# Altium footprint library Driver.PcbLib: 24 footprints (part 1 of 2)
Each footprint in its own frame and in the unit in brackets; x right, y up, seen from the top. Pads: shape width x height; smd on the part's side, far side on the other; paste and mask are expansions set on the pad; w line width, h text height; cw(c..) or ccw(c..) is an arc to the next point about the centre after c.
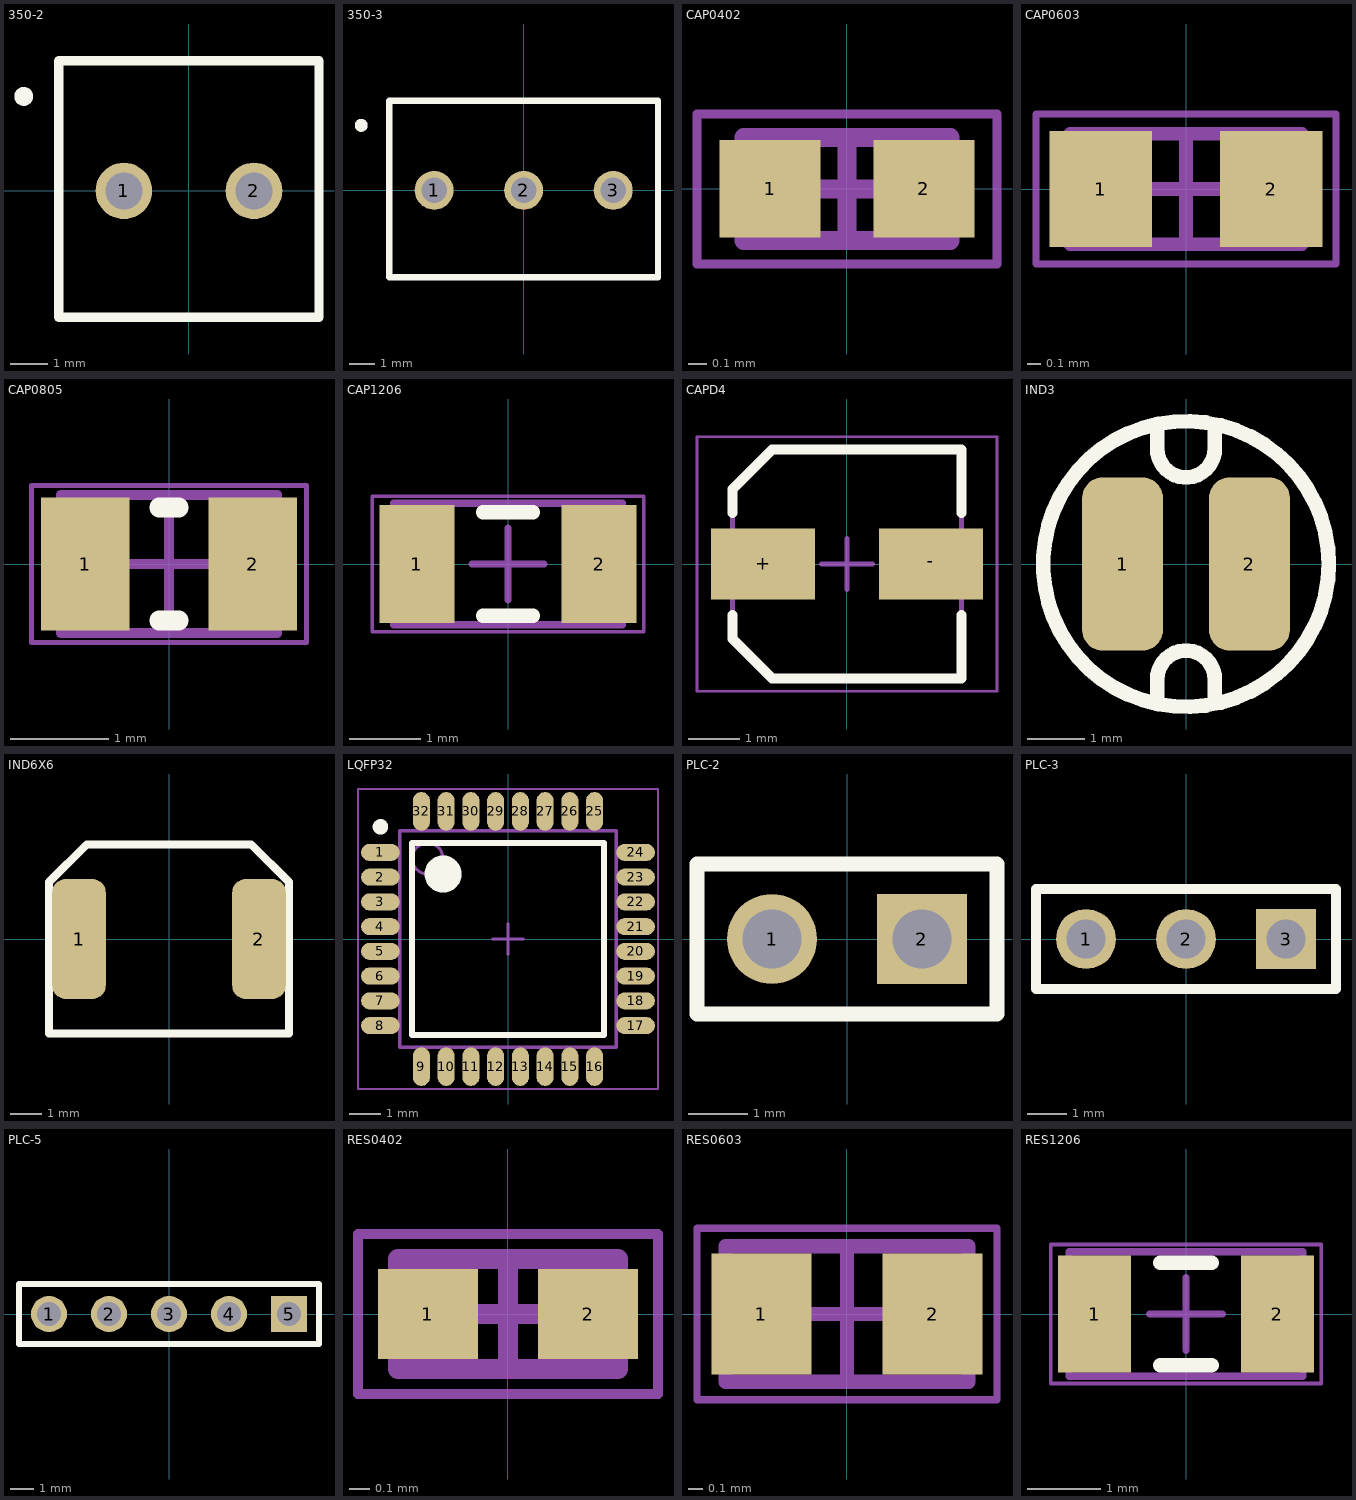
[diagram p0: the footprints below, top view; thin cyan lines are the x and y axes]

## 350-2 [mm]
pads (2):
  round 1.524 hole 1: 1(-1.75,0) 2(1.75,0)
Top Overlay:
  circle w0.254: c-4.445,2.54 r0.127
  lines w0.254: -3.5,-3.4 -3.5,3.5 3.5,3.5 3.5,-3.4 -3.5,-3.4

## 350-3 [mil]
pads (3):
  round 60 hole 39.37: 1(-137.8,0) 2(0,0) 3(137.8,0)
Top Overlay:
  circle w10: c-250,100 r5
  lines w10: -206.69,-133.86 206.69,-133.86 206.69,137.8 -206.69,137.8 -206.69,-133.86

## CAP0402 [mm] "Chip Capacitor, 2-Leads, Body 1,00x0,50mm, IPC High Density"
height 0.4
pads (2):
  rect 0.54x0.52 smd: 1(-0.41,0) 2(0.41,0)
Mechanical 13:
  lines w0.1: -0.55,-0.275 -0.55,0.275 0.55,0.275 0.55,-0.275 -0.55,-0.275
Mechanical 15:
  lines w0.05: -0.8,-0.4 -0.8,0.4 0.8,0.4 0.8,-0.4 -0.8,-0.4
  lines w0.1: -0.275,0 0.275,0 ; 0,-0.275 0,0.275
3D body "CAP0402.step": height 0.4, standoff 0, extent -0.55,-0.275 0.55,0.275

## CAP0603 [mm] "Chip Capacitor, 2-Leads, Body 1,60x0,80mm, IPC High Density"
height 0.9
pads (2):
  rect 0.75x0.85 smd: 1(-0.625,0) 2(0.625,0)
Mechanical 13:
  lines w0.1: -0.85,-0.405 0.85,-0.405 0.85,0.405 -0.85,0.405 -0.85,-0.405
Mechanical 15:
  lines w0.05: -1.1,-0.55 1.1,-0.55 1.1,0.55 -1.1,0.55 -1.1,-0.55
  lines w0.1: -0.405,0 0.405,0 ; 0,-0.405 0,0.405
3D body "CAP0603.step": height 0.9, standoff 0, extent -0.85,-0.405 0.85,0.405

## CAP0805 [mm] "Chip Capacitor, 2-Leads, Body 2,10x1,30mm, IPC High Density"
height 0.55
pads (2):
  rect 0.9x1.35 smd: 1(-0.85,0) 2(0.85,0)
Top Overlay:
  lines w0.2: -0.1,-0.575 0.1,-0.575 ; -0.1,0.575 0.1,0.575
Mechanical 13:
  lines w0.1: -1.1,-0.7 -1.1,0.7 1.1,0.7 1.1,-0.7 -1.1,-0.7
Mechanical 15:
  lines w0.05: -1.4,-0.8 -1.4,0.8 1.4,0.8 1.4,-0.8 -1.4,-0.8
  lines w0.1: -0.5,0 0.5,0 ; 0,-0.5 0,0.5
3D body "CAP0805.step": height 0.55, standoff 0, extent -1.1,-0.7 1.1,0.7

## CAP1206 [mm]
height 0.6
pads (2):
  rect 1.05x1.65 smd: 1(-1.275,0) 2(1.275,0)
Top Overlay:
  lines w0.2: -0.35,-0.725 0.35,-0.725 ; -0.35,0.725 0.35,0.725
Mechanical 13:
  lines w0.1: -1.6,-0.85 1.6,-0.85 1.6,0.85 -1.6,0.85 -1.6,-0.85
Mechanical 15:
  lines w0.05: -1.9,-0.95 1.9,-0.95 1.9,0.95 -1.9,0.95 -1.9,-0.95
  lines w0.1: -0.5,0 0.5,0 ; 0,-0.5 0,0.5
3D body "Chip2PinSM127P600-8N.step": height 0.6, standoff 0, extent -1.6,-0.85 1.6,0.85

## CAPD4 [mm] "Aluminum Electrolytic Capacitor, Body 4,30x4,30x6,10mm, IPC High Density"
height 6.1
pads (2):
  rect 2.05x1.4 smd: +(-1.65,0) -(1.65,0)
Top Overlay:
  lines w0.2: -2.25,-1 -2.25,-1.475 -1.475,-2.25 2.25,-2.25 2.25,-1 ; -2.25,1 -2.25,1.475 -1.475,2.25 2.25,2.25 2.25,1
Mechanical 13:
  lines w0.1: -2.25,-1.475 -1.475,-2.25 2.25,-2.25 2.25,2.25 -1.475,2.25 -2.25,1.475 -2.25,-1.475
Mechanical 15:
  lines w0.05: -2.95,-2.5 -2.95,2.5 2.95,2.5 2.95,-2.5 -2.95,-2.5
  lines w0.1: -0.5,0 0.5,0 ; 0,-0.5 0,0.5
3D body "CAPD4.step": height 6.1, standoff 0, extent -2.3,-2.25 2.3,2.25

## IND3 [mm]
pads (2):
  rrect50% 1.4x3 smd: 1(-1.1,0) 2(1.1,0)
Top Overlay:
  circle w0.254: c0,0 r2.476
  lines w0.254: -0.5,-2.4 -0.5,-2 cw(c0,-2) 0.5,-2 0.5,-2.4 ; -0.5,2.4 -0.5,2 ccw(c0,2) 0.5,2 0.5,2.4

## IND6X6 [mm]
pads (2):
  rrect50% 1.7x3.8 smd: 1(-2.85,0) 2(2.85,0)
Top Overlay:
  lines w0.254: -3.8,-3 3.8,-3 3.8,1.8 2.6,3 -2.6,3 -3.8,1.8 -3.8,-3

## LQFP32 [mm] "TQFP, 32-Leads, Body 7,00x7,00mm, Pitch 0,80mm, IPC High Density"
height 1.6
pads (32):
  oval 1.25x0.55 smd: 1(-4.125,2.8) 2(-4.125,2) 3(-4.125,1.2) 4(-4.125,0.4) 5(-4.125,-0.4) 6(-4.125,-1.2) 7(-4.125,-2) 8(-4.125,-2.8) 17(4.125,-2.8) 18(4.125,-2) 19(4.125,-1.2) 20(4.125,-0.4) 21(4.125,0.4) 22(4.125,1.2) 23(4.125,2) 24(4.125,2.8)
  oval 0.55x1.25 smd: 9(-2.8,-4.125) 10(-2,-4.125) 11(-1.2,-4.125) 12(-0.4,-4.125) 13(0.4,-4.125) 14(1.2,-4.125) 15(2,-4.125) 16(2.8,-4.125) 25(2.8,4.125) 26(2,4.125) 27(1.2,4.125) 28(0.4,4.125) 29(-0.4,4.125) 30(-1.2,4.125) 31(-2,4.125) 32(-2.8,4.125)
Top Overlay:
  circle w0.25: c-4.125,3.625 r0.125
  circle w0.6: c-2.1,2.1 r0.3
  lines w0.2: -3.1,-3.1 -3.1,3.1 3.1,3.1 3.1,-3.1 -3.1,-3.1
Mechanical 13:
  circle w0.1: c-2.6,2.6 r0.5
  lines w0.1: -3.5,-3.5 -3.5,3.5 3.5,3.5 3.5,-3.5 -3.5,-3.5
Mechanical 15:
  lines w0.05: -4.85,-4.85 -4.85,4.85 4.85,4.85 4.85,-4.85 -4.85,-4.85
  lines w0.1: -0.5,0 0.5,0 ; 0,-0.5 0,0.5
3D body "LQFP32.step": height 1.6, standoff 0, extent -4.5,-4.5 4.5,4.5

## PLC-2 [mil]
pads (2):
  round 60 hole 39.37: 1(-50,0)
  rect 60x60 hole 39.37: 2(50,0)
Top Overlay:
  lines w10: -100,-50 100,-50 100,50 -100,50 -100,-50

## PLC-3 [mil]
pads (3):
  round 60 hole 39.37: 1(-100,0) 2(0,0)
  rect 60x60 hole 39.37: 3(100,0)
Top Overlay:
  lines w10: -150,-50 150,-50 150,50 -150,50 -150,-50

## PLC-5 [mil]
pads (5):
  round 60 hole 39.37: 1(-200,0) 2(-100,0) 3(0,0) 4(100,0)
  rect 60x60 hole 39.37: 5(200,0)
Top Overlay:
  lines w10: -250,-50 -250,50 250,50 250,-50 -250,-50

## RES0402 [mm]
height 0.4
pads (2):
  rect 0.5x0.45 smd: 1(-0.4,0) 2(0.4,0)
Mechanical 13:
  lines w0.1: -0.55,-0.275 0.55,-0.275 0.55,0.275 -0.55,0.275 -0.55,-0.275
Mechanical 15:
  lines w0.05: -0.75,-0.4 0.75,-0.4 0.75,0.4 -0.75,0.4 -0.75,-0.4
  lines w0.1: -0.275,0 0.275,0 ; 0,-0.275 0,0.275
3D body "Chip2PinSM127P600-8N.step": height 0.4, standoff 0, extent -0.55,-0.275 0.55,0.275

## RES0603 [mm]
height 0.5
pads (2):
  rect 0.7x0.85 smd: 1(-0.6,0) 2(0.6,0)
Mechanical 13:
  lines w0.1: -0.85,-0.475 0.85,-0.475 0.85,0.475 -0.85,0.475 -0.85,-0.475
Mechanical 15:
  lines w0.05: -1.05,-0.6 1.05,-0.6 1.05,0.6 -1.05,0.6 -1.05,-0.6
  lines w0.1: -0.475,0 0.475,0 ; 0,-0.475 0,0.475
3D body "Chip2PinSM127P600-8N.step": height 0.5, standoff 0, extent -0.85,-0.475 0.85,0.475

## RES1206 [mm]
height 0.6
pads (2):
  rect 1x1.6 smd: 1(-1.25,0) 2(1.25,0)
Top Overlay:
  lines w0.2: -0.35,-0.7 0.35,-0.7 ; -0.35,0.7 0.35,0.7
Mechanical 13:
  lines w0.1: -1.6,-0.85 1.6,-0.85 1.6,0.85 -1.6,0.85 -1.6,-0.85
Mechanical 15:
  lines w0.05: -1.85,-0.95 1.85,-0.95 1.85,0.95 -1.85,0.95 -1.85,-0.95
  lines w0.1: -0.5,0 0.5,0 ; 0,-0.5 0,0.5
3D body "Chip2PinSM127P600-8N.step": height 0.6, standoff 0, extent -1.6,-0.85 1.6,0.85